# Altium schematic symbol library LMR51420.SchLib: 1 symbol
Pins are listed as number, name and electrical type; pins without a type are passive.

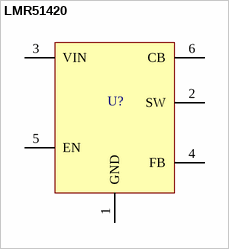
[diagram p0: symbol LMR51420]

## LMR51420
designator U?  (value not drawn)
pins: 1 GND (power), 2 SW (power), 3 VIN (power), 4 FB (power), 5 EN (power), 6 CB (power)